# Altium schematic symbol library 1PMT4135E3.SchLib: 1 symbol
Pins are listed as number, name and electrical type; pins without a type are passive.

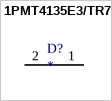
[diagram p0: symbol 1PMT4135E3/TR7]

## 1PMT4135E3/TR7
designator D?
DIODE ZENER 100V 1W DO216; Manufacturer: Microsemi; Manufacturer Part Number: 1PMT4135E3/TR7; Element Configuration: Single; Impedance: 250R; Tolerance: 5%; Zener Current: 10nA; Forward Voltage: 1.1V; Supplier 1: Mouser; Stock 1: 2900; Pricing 1: 1 = 0.59000, 10 = 0.43400, 100 = 0.27300, 1000 = 0.20500, 3000 = 0.17400, 9000 = 0.16300 (USD); RoHS: Yes; Mount: Surface Mount; Case/Package: DO-216-2; Number of Pins: 2; Contact Plating: Tin,Matte; Min Operating Temperature: -55°C; Max Operating Temperature: 150°C; Zener Voltage: 100V; Max Power Dissipation: 1W; Packaging: Tape and Reel; Voltage Tolerance: 5%; Peak Reverse Current: 10nA; Package Quantity: 3000; Length: 2.03mm; Height: 1.14mm; ComponentLink1URL: https://datasheet.ciiva.com/29597/rf01097-29597734.pdf?src-supplier=Digi-Key; ComponentLink1Description: https://datasheet.ciiva.com/29597/rf01097-29597734.pdf?src-supplier=Digi-Key; Supplier Part Number 1: 494-1PMT4135E3/TR7
footprint 1PMT4135E (Diod's footpring)
pins: 1 A, 2 C